# Altium footprint library PEI_PCB_1.1.PcbLib: 310 footprints (part 13 of 20)
Each footprint in its own frame and in the unit in brackets; x right, y up, seen from the top. Pads: shape width x height; smd on the part's side, far side on the other; paste and mask are expansions set on the pad; w line width, h text height; cw(c..) or ccw(c..) is an arc to the next point about the centre after c.
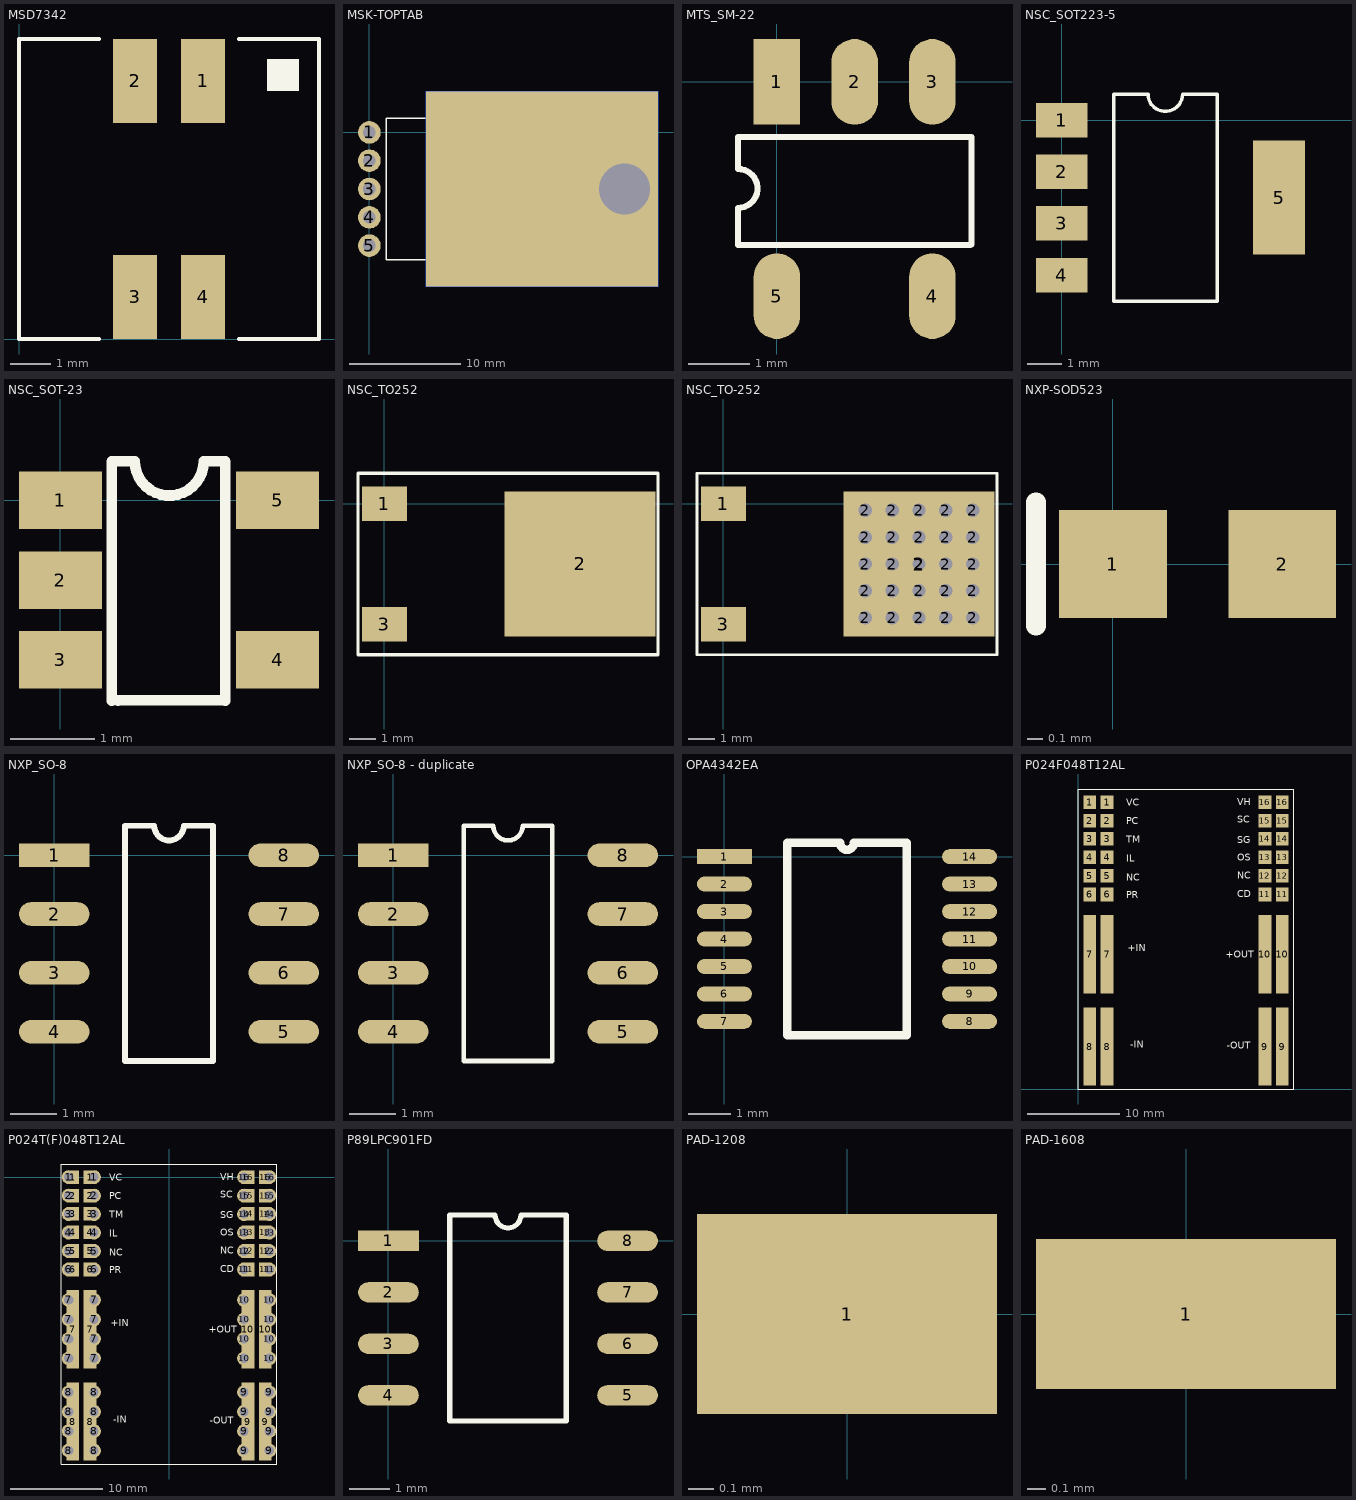
[diagram p12: the footprints below, top view; thin cyan lines are the x and y axes]

## MSD7342 [mm]
pads (4):
  rect 1.1x2.1 smd: 1(4.6,6.45) 2(2.9,6.45) 3(2.9,1.05) 4(4.6,1.05)
TopOverlay:
  rectangle: 6.2,6.2 7,7
  lines w0.1: 2,0 0,0 0,7.5 2,7.5 ; 5.5,0 7.5,0 7.5,7.5 5.5,7.5

## MSK-TOPTAB [mil]
pads (8):
  round 80 hole 45: 1(0,0) 2(0,-100) 3(0,-200) 4(0,-300) 5(0,-400)
  rect 820x690 smd: ""(610,-200)
  rect 820x690 smd far side: ""(610,-200)
  round 200 hole 180: ""(902,-200)
TopOverlay:
  lines w5: 60,-450 60,50 275,50 ccw(c300,50) 325,50 540,50 540,-450 60,-450
  text "MSK5201" at 220.47,-523.62 h30

## MTS_SM-22 [mm]
height 2.8
pads (5):
  rect 0.76x1.4 smd: 1(0,0)
  oval 0.76x1.4 smd: 2(1.27,0) 3(2.54,0) 4(2.54,-3.5) 5(0,-3.5)
TopOverlay:
  lines w0.1: 3.163,-2.662 -0.635,-2.662 -0.635,-2.058 ccw(c-0.635,-1.741) -0.635,-1.423 -0.635,-0.9 3.175,-0.9 3.175,-2.653

## NSC_SOT223-5 [mm]
pads (5):
  rect 1.5x1 smd: 1(0,0) 2(0,-1.5) 3(0,-3) 4(0,-4.5)
  rect 1.5x3.3 smd: 5(6.3,-2.25)
TopOverlay:
  lines w0.1: 1.5,-5.25 4.5,-5.25 4.5,0.75 3.5,0.75 cw(c3,0.75) 2.5,0.75 1.5,0.75 1.5,-5.25

## NSC_SOT-23 [mil]
pads (5):
  rect 39x27 smd: 1(0,0) 2(0,-37.5) 3(0,-75) 4(102,-75) 5(102,0)
TopOverlay:
  lines w5: 24.1,-94.3 24.1,18.2 ; 24.3,18.4 34.92,18.4 ccw(c51.13,18.4) 67.33,18.4 77.2,18.4 ; 27,-94.1 76.5,-93.9 ; 77.4,-94.3 77.4,18.2

## NSC_TO252 [mm]
pads (3):
  rect 1.7x1.3 smd: 1(0,0) 3(0,-4.57)
  rect 5.7x5.5 smd: 2(7.4,-2.285)
TopOverlay:
  lines w0.127: -1,-5.713 10.35,-5.713 10.35,1.142 -1,1.142 -1,-5.713

## NSC_TO-252 [mil]
pads (28):
  rect 66.93x51.18 smd: 1(0,0) 3(0,-179.92)
  round 30 hole 20: 2(211.34,-169.96) 2(211.34,-129.96) 2(211.34,-89.96) 2(211.34,-49.96) 2(211.34,-9.96) 2(251.34,-169.96) 2(251.34,-129.96) 2(251.34,-89.96) 2(251.34,-49.96) 2(251.34,-9.96) 2(291.34,-169.96) 2(291.34,-129.96) 2(291.34,-89.96) 2(291.34,-49.96) 2(291.34,-9.96) 2(331.34,-169.96) 2(331.34,-129.96) 2(331.34,-89.96) 2(331.34,-49.96) 2(331.34,-9.96) 2(371.34,-169.96) 2(371.34,-129.96) 2(371.34,-89.96) 2(371.34,-49.96) 2(371.34,-9.96)
  rect 224.41x216.53 smd: 2(291.34,-89.96)
TopOverlay:
  lines w3.94: -39.37,-224.9 -39.37,44.98 407.48,44.98 407.48,-224.9 -39.37,-224.9

## NXP-SOD523 [mm]
pads (2):
  rect 0.7x0.7 smd: 1(0,0) 2(1.1,0)
TopOverlay:
  lines w0.127: -0.5,-0.4 -0.5,0.4

## NXP_SO-8 [mil]
pads (8):
  rect 60x20 smd: 1(0,0)
  oval 60x20 smd: 2(0,-50) 3(0,-100) 4(0,-150) 5(195,-150) 6(195,-100) 7(195,-50) 8(195,0)
TopOverlay:
  lines w5: 60,-175 60,25 85,25 ccw(c97.5,25) 110,25 135,25 135,-175 60,-175

## NXP_SO-8 - duplicate [mil]
pads (8):
  rect 60x20 smd: 1(0,0)
  oval 60x20 smd: 2(0,-50) 3(0,-100) 4(0,-150) 5(195,-150) 6(195,-100) 7(195,-50) 8(195,0)
TopOverlay:
  lines w3.94: 60,-175 60,25 85,25 ccw(c97.5,25) 110,25 135,25 135,-175 60,-175

## OPA4342EA [mm]
pads (14):
  rect 1.3x0.35 smd: 1(0,0)
  oval 1.3x0.35 smd: 2(0,-0.65) 3(0,-1.3) 4(0,-1.95) 5(0,-2.6) 6(0,-3.25) 7(0,-3.9) 8(5.8,-3.9) 9(5.8,-3.25) 10(5.8,-2.6) 11(5.8,-1.95) 12(5.8,-1.3) 13(5.8,-0.65) 14(5.8,0)
TopOverlay:
  lines w0.2: 1.485,-4.225 1.485,0.325 2.738,0.325 ccw(c2.9,0.325) 3.063,0.325 4.315,0.325 4.315,-4.225 1.485,-4.225

## P024F048T12AL [mil]
pads (32):
  rect 54x58 smd: 1(49,1224) 1(123,1224) 2(49,1145) 2(123,1145) 3(49,1067) 3(123,1067) 4(49,988) 4(123,988) 5(49,909) 5(123,909) 6(49,830) 6(123,830) 11(797,830) 11(871,830) 12(797,909) 12(871,909) 13(797,988) 13(871,988) 14(797,1067) 14(871,1067) 15(797,1145) 15(871,1145) 16(797,1224) 16(871,1224)
  rect 54x334 smd: 7(49,575) 7(123,575) 8(49,181) 8(123,181) 9(797,181) 9(871,181) 10(797,575) 10(871,575)
TopOverlay:
  lines w5: 0,0 920,0 920,1280 460,1280 0,1280 0,0
  text "VC" at 204,1209 h30
  text "PC" at 205,1129 h30
  text "TM" at 205,1051 h30
  text "IL" at 205,970 h30
  text "NC" at 205,889 h30
  text "PR" at 205,813 h30
  text "+IN" at 212,587 h30
  text "-IN" at 222,176 h30
  text "VH" at 678,1210 h30
  text "SC" at 678,1135 h30
  text "SG" at 679,1049 h30
  text "OS" at 678,974 h30
  text "NC" at 678,897 h30
  text "CD" at 678,819 h30
  text "+OUT" at 630,560 h30
  text "-OUT" at 634,171 h30

## P024T(F)048T12AL [mil]
pads (88):
  round 59 hole 39: 1(-428,0) 1(-320,0) 2(-428,-79) 2(-320,-79) 3(-428,-158) 3(-320,-158) 4(-428,-237) 4(-320,-237) 5(-428,-316) 5(-320,-316) 6(-428,-394) 6(-320,-394) 7(-428,-773) 7(-428,-690) 7(-428,-607) 7(-428,-524) 7(-320,-773) 7(-320,-690) 7(-320,-607) 7(-320,-524) 8(-428,-1167) 8(-428,-1084) 8(-428,-1001) 8(-428,-918) 8(-320,-1167) 8(-320,-1084) 8(-320,-1001) 8(-320,-918) 9(320,-1167) 9(320,-1084) 9(320,-1001) 9(320,-918) 9(428,-1167) 9(428,-1084) 9(428,-1001) 9(428,-918) 10(320,-773) 10(320,-690) 10(320,-607) 10(320,-524) 10(428,-773) 10(428,-690) 10(428,-607) 10(428,-524) 11(320,-394) 11(428,-394) 12(320,-316) 12(428,-316) 13(320,-237) 13(428,-237) 14(320,-158) 14(428,-158) 15(320,-79) 15(428,-79) 16(320,0) 16(428,0)
  rect 54x58 smd: 1(-411,0) 1(-337,0) 2(-411,-79) 2(-337,-79) 3(-411,-157) 3(-337,-157) 4(-411,-236) 4(-337,-236) 5(-411,-315) 5(-337,-315) 6(-411,-394) 6(-337,-394) 11(337,-394) 11(411,-394) 12(337,-315) 12(411,-315) 13(337,-236) 13(411,-236) 14(337,-157) 14(411,-157) 15(337,-79) 15(411,-79) 16(337,0) 16(411,0)
  rect 54x334 smd: 7(-411,-649) 7(-337,-649) 8(-411,-1043) 8(-337,-1043) 9(337,-1043) 9(411,-1043) 10(337,-649) 10(411,-649)
TopOverlay:
  lines w5: -460,-1224 -460,56 0,56 460,56 460,-1224 -460,-1224
  text "-OUT" at 174,-1053 h30
  text "+OUT" at 170,-664 h30
  text "CD" at 218,-405 h30
  text "NC" at 218,-327 h30
  text "OS" at 218,-250 h30
  text "SG" at 219,-175 h30
  text "SC" at 218,-89 h30
  text "VH" at 218,-14 h30
  text "-IN" at -238,-1048 h30
  text "+IN" at -248,-637 h30
  text "PR" at -255,-411 h30
  text "NC" at -255,-335 h30
  text "IL" at -255,-254 h30
  text "TM" at -255,-173 h30
  text "PC" at -255,-95 h30
  text "VC" at -256,-15 h30

## P89LPC901FD [mm]
pads (8):
  rect 1.5x0.5 smd: 1(0,0)
  oval 1.5x0.5 smd: 2(0,-1.27) 3(0,-2.54) 4(0,-3.81) 5(5.9,-3.81) 6(5.9,-2.54) 7(5.9,-1.27) 8(5.9,0)
TopOverlay:
  lines w0.127: 1.512,-4.445 4.388,-4.445 4.388,0.635 3.268,0.635 cw(c2.95,0.635) 2.633,0.635 1.512,0.635 1.512,-4.445

## PAD-1208 [mm]
pads (1):
  rect 1.2x0.8 smd: 1(0,0)

## PAD-1608 [mm]
pads (1):
  rect 1.6x0.8 smd: 1(0,0)